# Altium footprint library FOC_DRV8323.PcbLib: 17 footprints (part 2 of 2)
Each footprint in its own frame and in the unit in brackets; x right, y up, seen from the top. Pads: shape width x height; smd on the part's side, far side on the other; paste and mask are expansions set on the pad; w line width, h text height; cw(c..) or ccw(c..) is an arc to the next point about the centre after c.
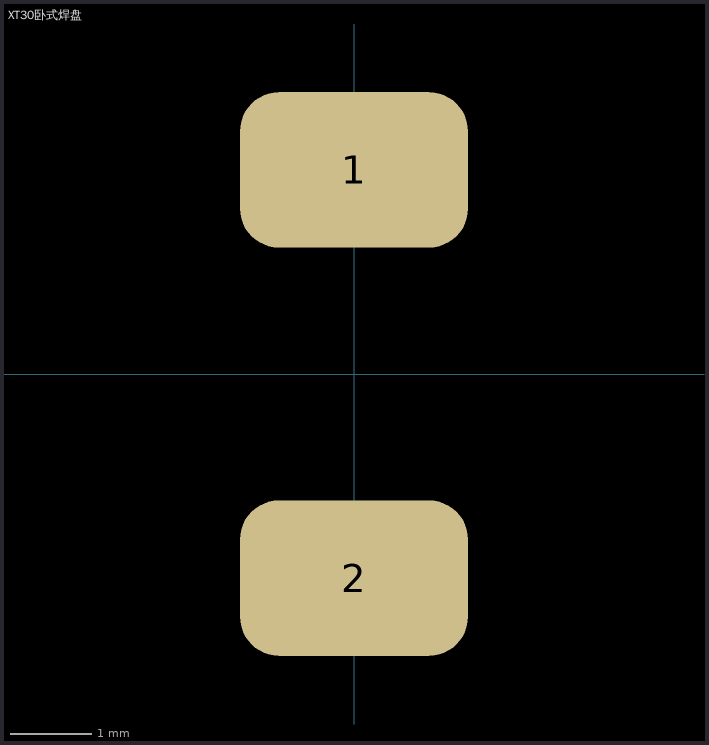
[diagram p1: the footprint, top view; thin cyan lines are the x and y axes]

## XT30卧式焊盘 [mm]
pads (2):
  rrect50% 2.794x1.905 smd: 1(0,2.5) 2(0,-2.5)